# EAGLE library part LIS2DTW12TR (library LIS2DTW12TR)
STMICROELECTRONICS - LIS2DTW12TR - MEMS MODULE, TRI-AXIS ACCELEROMETER Source: Datasheet <https://componentsearchengine.com/Datasheets/1/LIS2DTW12TR.pdf>
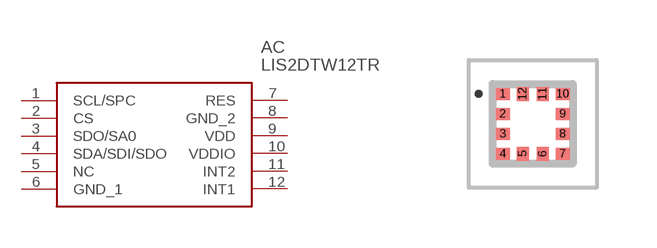
[diagram p0: symbol with the pads of IIS2MDCTR; footprint IIS2MDCTR]

Designator prefix AC

## LIS2DTW12TR (Description: STMICROELECTRONICS - LIS2DTW12TR - MEMS MODULE, TRI-AXIS ACCELEROMETER; Height: 0.7mm; Manufacturer_Name: STMicroelectronics; Manufacturer_Part_Number: LIS2DTW12TR; Mouser_Part_Number: 511-LIS2DTW12TR; Mouser_Price-Stock: https://www.mouser.com/Search/Refine.aspx?Keyword=511-LIS2DTW12TR)  [IIS2MDCTR]
1  SCL/SPC
2  CS
3  SDO/SA0
4  SDA/SDI/SDO
5  NC  nc
6  GND_1
7  RES
8  GND_2
9  VDD
10  VDDIO
11  INT2
12  INT1

## Footprint IIS2MDCTR (pad centres in mm)
LGA-12 XDM
smd 0.35 x 0.3: 1 -0.75,0.75; 2 -0.75,0.25; 3 -0.75,-0.25; 4 -0.75,-0.75; 7 0.75,-0.75; 8 0.75,-0.25; 9 0.75,0.25; 10 0.75,0.75
smd 0.3 x 0.35: 5 -0.25,-0.75; 6 0.25,-0.75; 11 0.25,0.75; 12 -0.25,0.75